# Altium schematic symbol library DIODE_ZENER_AK.Schlib: 1 symbol
Pins are listed as number, name and electrical type; pins without a type are passive.

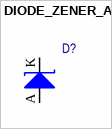
[diagram p0: symbol DIODE_ZENER_AK]

## DIODE_ZENER_AK
designator D?  (value not drawn)
pins: A, K